# Altium schematic symbol library NUC973 DEV BOARD 20150401_Library.SchLib: 88 symbols
Pins are listed as number, name and electrical type; pins without a type are passive.

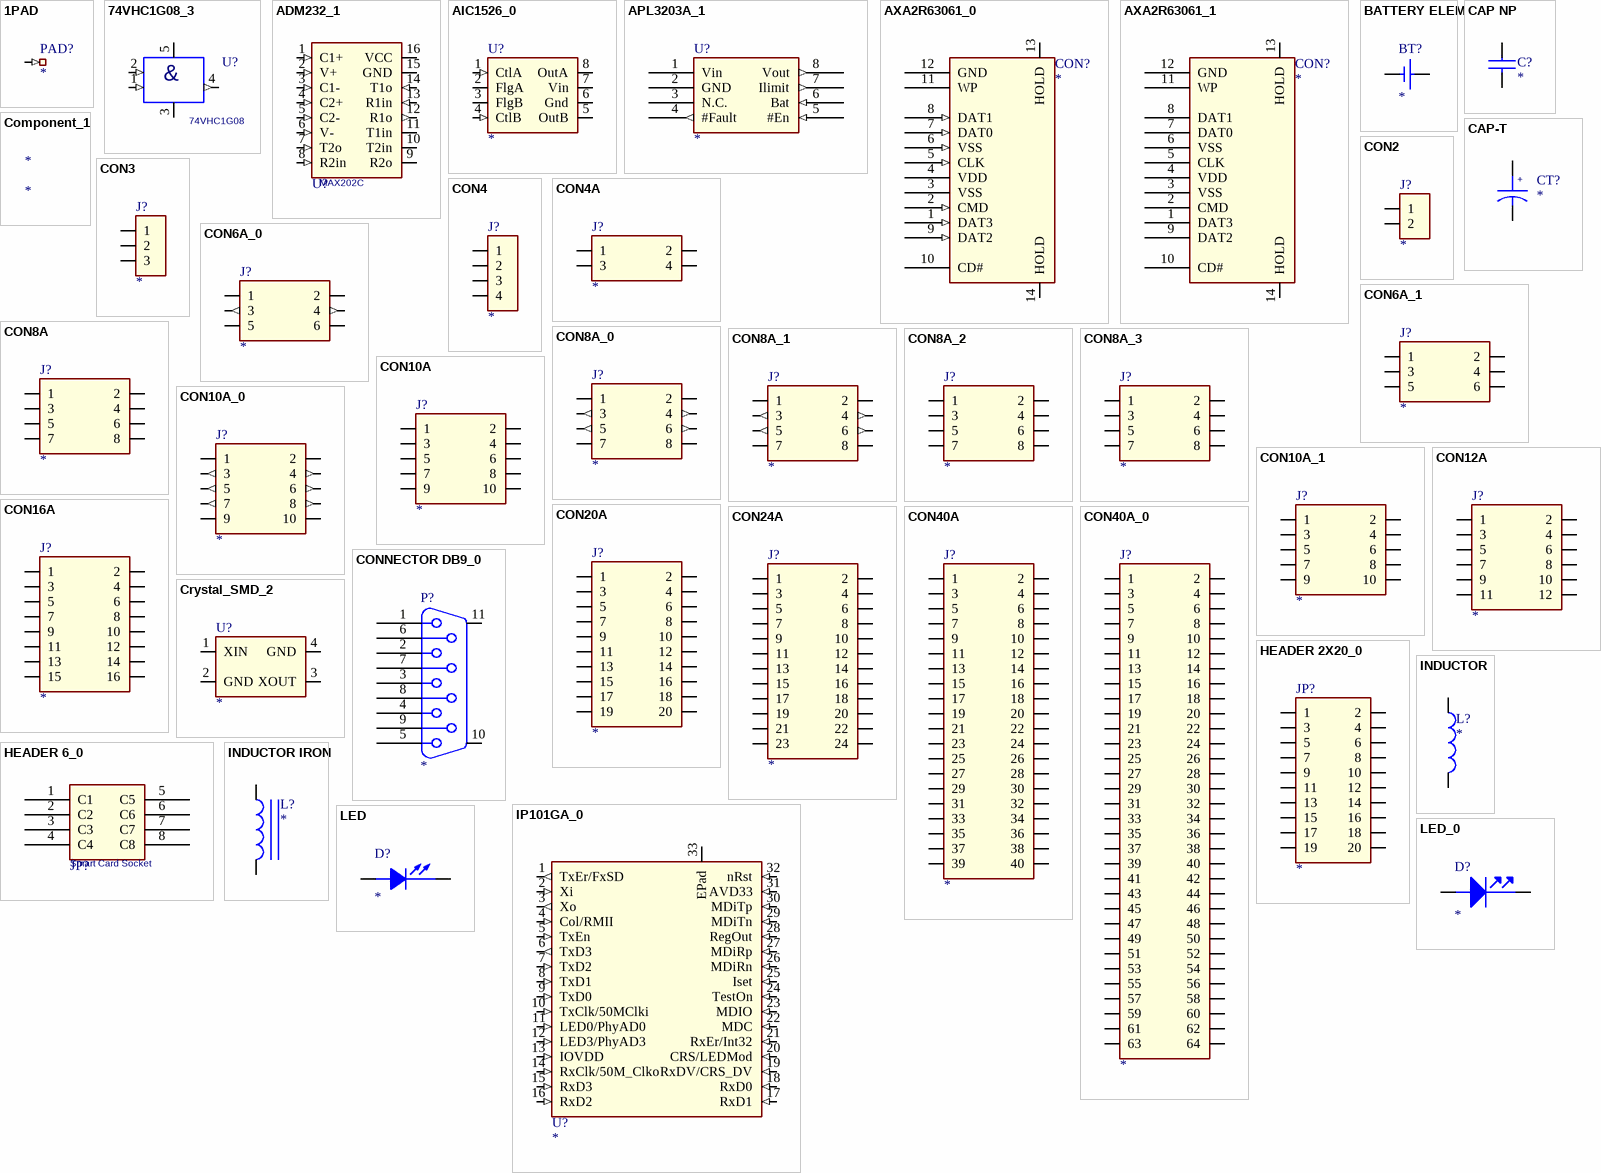
[diagram p0: symbols 1PAD to LED_0]

## 1PAD
designator PAD?
footprint 1PAD 1.25x1.25mm
pins: \ (in)

## 74VHC1G08_3
designator U?, comment 74VHC1G08
pins: 1 1B (in), 2 1A (in), 3 GND (power), 4 1Y (out), 5 VCC
text: &

## ADM232_1
designator U?, comment MAX202C
pins: 1 C1+ (in), 2 V+ (in), 3 C1- (in), 4 C2+ (in), 5 C2- (in), 6 V- (in), 7 T2o (in), 8 R2in (in), 9 R2o, 10 T2in, 11 T1in (io), 12 R1o (out), 13 R1in (in), 14 T1o (in), 15 GND (power), 16 VCC (power)

## AIC1526_0
designator U?
footprint SO-8
pins: 1 CtlA (in), 2 FlgA (oc), 3 FlgB (oc), 4 CtlB (in), 5 OutB (power), 6 Gnd (power), 7 Vin (power), 8 OutA (power)

## APL3203A_1
designator U?
footprint TDFN2x2-8
pins: 1 Vin (power), 2 GND (power), 3 N.C., 4 #Fault (out), 5 #En (in), 6 Bat (in), 7 Ilimit (out), 8 Vout (out)

## AXA2R63061_0
designator CON?
footprint AXA2R63061
pins: 1 DAT3 (in), 2 CMD (in), 3 VSS (power), 4 VDD (power), 5 CLK (in), 6 VSS (in), 7 DAT0 (in), 8 DAT1 (in), 9 DAT2 (in), 10 CD#, 11 WP, 12 GND (power), 13 HOLD (power), 14 HOLD (power)

## AXA2R63061_1
designator CON?
footprint AXA2R63061
pins: 1 DAT3, 2 CMD, 3 VSS (power), 4 VDD (power), 5 CLK, 6 VSS, 7 DAT0, 8 DAT1, 9 DAT2, 10 CD#, 11 WP, 12 GND (power), 13 HOLD (power), 14 HOLD (power)

## BATTERY ELEM
designator BT?
pins: 1, 2

## CAP NP
designator C?
pins: 1, 2

## CAP-T
designator CT?
pins: 1, 2
text: +

## Component_1
designator *

## CON2
designator J?
pins: 1, 2

## CON3
designator J?
pins: 1, 2, 3

## CON4
designator J?
pins: 1, 2, 3, 4

## CON4A
designator J?
pins: 1, 2, 3, 4

## CON6A_0
designator J?
pins: 1, 2, 3 (out), 4 (out), 5, 6

## CON6A_1
designator J?
pins: 1, 2, 3, 4, 5, 6

## CON8A
designator J?
pins: 1, 2, 3, 4, 5, 6, 7, 8

## CON8A_0
designator J?
pins: 1, 2, 3 (out), 4 (out), 5 (out), 6 (out), 7, 8

## CON8A_1
designator J?
pins: 1, 2, 3 (out), 4 (out), 5 (out), 6 (out), 7, 8

## CON8A_2
designator J?
pins: 1, 2, 3, 4, 5, 6, 7, 8

## CON8A_3
designator J?
pins: 1, 2, 3, 4, 5, 6, 7, 8

## CON10A
designator J?
pins: 1, 2, 3, 4, 5, 6, 7, 8, 9, 10

## CON10A_0
designator J?
pins: 1, 2, 3 (out), 4 (out), 5 (out), 6 (out), 7 (out), 8 (out), 9, 10

## CON10A_1
designator J?
pins: 1, 2, 3, 4, 5, 6, 7, 8, 9, 10

## CON12A
designator J?
pins: 1, 2, 3, 4, 5, 6, 7, 8, 9, 10, 11, 12

## CON16A
designator J?
pins: 1, 2, 3, 4, 5, 6, 7, 8, 9, 10, 11, 12, 13, 14, 15, 16

## CON20A
designator J?
pins: 1, 2, 3, 4, 5, 6, 7, 8, 9, 10, 11, 12, 13, 14, 15, 16, 17, 18, 19, 20

## CON24A
designator J?
pins: 1, 2, 3, 4, 5, 6, 7, 8, 9, 10, 11, 12, 13, 14, 15, 16, 17, 18, 19, 20, 21, 22, 23, 24

## CON40A
designator J?
pins: 1, 2, 3, 4, 5, 6, 7, 8, 9, 10, 11, 12, 13, 14, 15, 16, 17, 18, 19, 20, 21, 22, 23, 24, 25, 26, 27, 28, 29, 30, 31, 32, 33, 34, 35, 36, 37, 38, 39, 40

## CON40A_0
designator J?
pins: 1, 2, 3, 4, 5, 6, 7, 8, 9, 10, 11, 12, 13, 14, 15, 16, 17, 18, 19, 20, 21, 22, 23, 24, 25, 26, 27, 28, 29, 30, 31, 32, 33, 34, 35, 36, 37, 38, 39, 40, 41, 42, 43, 44, 45, 46, 47, 48, 49, 50, 51, 52, 53, 54, 55, 56, 57, 58, 59, 60, 61, 62, 63, 64

## CONNECTOR DB9_0
designator P?
pins: 1, 2, 3, 4, 5, 6, 7, 8, 9, 10 (power), 11 (power)

## Crystal_SMD_2
designator U?
pins: 1 XIN, 2 GND (power), 3 XOUT, 4 GND (power)

## HEADER 2X20_0
designator JP?
pins: 1, 2, 3, 4, 5, 6, 7, 8, 9, 10, 11, 12, 13, 14, 15, 16, 17, 18, 19, 20

## HEADER 6_0
designator JP?, comment Smart Card Socket
pins: 1 C1, 2 C2, 3 C3, 4 C4, 5 C5, 6 C6, 7 C7, 8 C8

## INDUCTOR
designator L?
pins: 1, 2

## INDUCTOR IRON
designator L?
pins: 1, 2

## IP101GA_0
designator U?
footprint QFN32
pins: 1 TxEr/FxSD (out), 2 Xi (in), 3 Xo (out), 4 Col/RMII (in), 5 TxEn (in), 6 TxD3 (out), 7 TxD2 (in), 8 TxD1 (in), 9 TxD0 (in), 10 TxClk/50MClki (in), 11 LED0/PhyAD0 (in), 12 LED3/PhyAD3 (in), 13 IOVDD (in), 14 RxClk/50M_Clko (in), 15 RxD3 (in), 16 RxD2 (in), 17 RxD1 (in), 18 RxD0 (in), 19 RxDV/CRS_DV (in), 20 CRS/LEDMod (in), 21 RxEr/Int32 (in), 22 MDC (in), 23 MDIO (in), 24 TestOn (in), 25 Iset (in), 26 MDiRn (in), 27 MDiRp (in), 28 RegOut (in), 29 MDiTn (in), 30 MDiTp (in), 31 AVD33 (in), 32 nRst (in), 33 EPad (power)

## LED
designator D?
pins: 1 ANODE, 2 CATHODE

## LED_0
designator D?
pins: ANODE, CATHODE

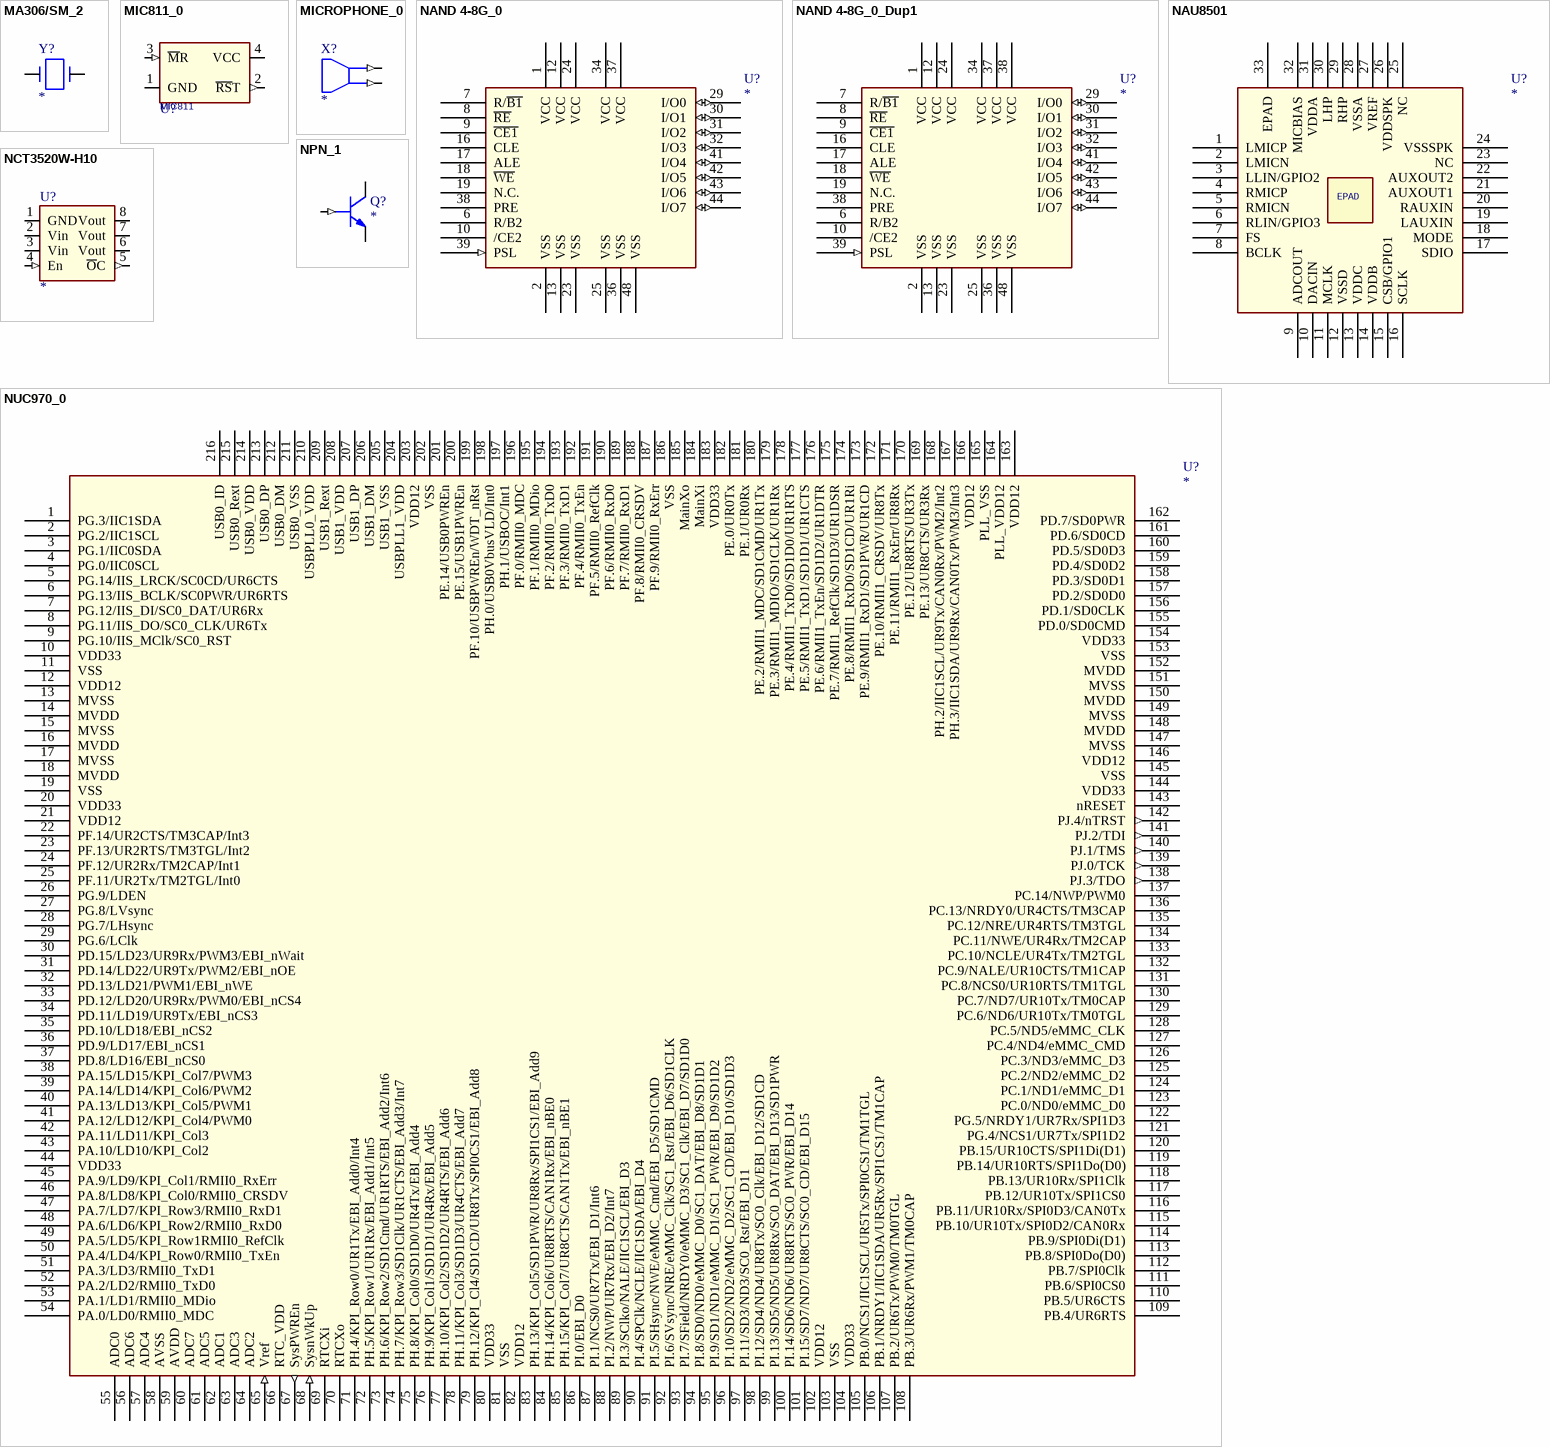
[diagram p1: symbols MA306/SM_2 to NUC970_0]

## MA306/SM_2
designator Y?
pins: 1, 2

## MIC811_0
designator U?, comment MIC811
pins: 1 GND, 2 ~{RS}T (out), 3 ~{M}R (in), 4 VCC

## MICROPHONE_0
designator X?
pins: 1 (out), 2 (out)

## NAND 4-8G_0
designator U?
footprint SOP48-0.5mm
pins: 1 VCC (power), 2 VSS (power), 6 R/B2, 7 R/~{B1}, 8 ~{RE}, 9 ~{CE1}, 10 /CE2, 12 VCC (power), 13 VSS (power), 16 CLE, 17 ALE, 18 ~{WE}, 19 N.C., 23 VSS (power), 24 VCC (power), 25 VSS (power), 29 I/O0 (io), 30 I/O1 (io), 31 I/O2 (io), 32 I/O3 (io), 34 VCC (power), 36 VSS (power), 37 VCC (power), 38 PRE, 39 PSL (in), 41 I/O4 (io), 42 I/O5 (io), 43 I/O6 (io), 44 I/O7 (io), 48 VSS (power)

## NAND 4-8G_0_Dup1
designator U?
footprint SOP48-0.5mm
pins: 1 VCC (power), 2 VSS (power), 6 R/B2, 7 R/~{B1}, 8 ~{RE}, 9 ~{CE1}, 10 /CE2, 12 VCC (power), 13 VSS (power), 16 CLE, 17 ALE, 18 ~{WE}, 19 N.C., 23 VSS (power), 24 VCC (power), 25 VSS (power), 29 I/O0 (io), 30 I/O1 (io), 31 I/O2 (io), 32 I/O3 (io), 34 VCC (power), 36 VSS (power), 37 VCC (power), 38 PRE, 38 VCC (power), 39 PSL (in), 41 I/O4 (io), 42 I/O5 (io), 43 I/O6 (io), 44 I/O7 (io), 48 VSS (power)

## NAU8501
designator U?
footprint QFN 32L, 5mm X 5mm, 0.5mm lead pitch
pins: 1 LMICP, 2 LMICN, 3 LLIN/GPIO2, 4 RMICP, 5 RMICN, 6 RLIN/GPIO3, 7 FS, 8 BCLK, 9 ADCOUT, 10 DACIN, 11 MCLK, 12 VSSD (power), 13 VDDC (power), 14 VDDB (power), 15 CSB/GPIO1, 16 SCLK, 17 SDIO, 18 MODE, 19 LAUXIN, 20 RAUXIN, 21 AUXOUT1, 22 AUXOUT2, 23 NC, 24 VSSSPK (power), 25 NC, 26 VDDSPK (power), 27 VREF, 28 VSSA (power), 29 RHP, 30 LHP, 31 VDDA (power), 32 MICBIAS (power), 33 EPAD

## NCT3520W-H10
designator U?
footprint MSOP-8
pins: 1 GND (power), 2 Vin (power), 3 Vin (power), 4 En (in), 5 ~{O}C (out), 6 Vout (power), 7 Vout (power), 8 Vout (power)

## NPN_1
designator Q?
pins: B (in), C, E

## NUC970_0
designator U?
footprint LQFP-216
pins: 1 PG.3/IIC1SDA, 2 PG.2/IIC1SCL, 3 PG.1/IIC0SDA, 4 PG.0/IIC0SCL, 5 PG.14/IIS_LRCK/SC0CD/UR6CTS, 6 PG.13/IIS_BCLK/SC0PWR/UR6RTS, 7 PG.12/IIS_DI/SC0_DAT/UR6Rx, 8 PG.11/IIS_DO/SC0_CLK/UR6Tx, 9 PG.10/IIS_MClk/SC0_RST, 10 VDD33 (power), 11 VSS (power), 12 VDD12 (power), 13 MVSS (power), 14 MVDD (power), 15 MVSS (power), 16 MVDD (power), 17 MVSS (power), 18 MVDD (power), 19 VSS (power), 20 VDD33 (power), 21 VDD12 (power), 22 PF.14/UR2CTS/TM3CAP/Int3, 23 PF.13/UR2RTS/TM3TGL/Int2, 24 PF.12/UR2Rx/TM2CAP/Int1, 25 PF.11/UR2Tx/TM2TGL/Int0, 26 PG.9/LDEN, 27 PG.8/LVsync, 28 PG.7/LHsync, 29 PG.6/LClk, 30 PD.15/LD23/UR9Rx/PWM3/EBI_nWait, 31 PD.14/LD22/UR9Tx/PWM2/EBI_nOE, 32 PD.13/LD21/PWM1/EBI_nWE, 33 PD.12/LD20/UR9Rx/PWM0/EBI_nCS4, 34 PD.11/LD19/UR9Tx/EBI_nCS3, 35 PD.10/LD18/EBI_nCS2, 36 PD.9/LD17/EBI_nCS1, 37 PD.8/LD16/EBI_nCS0, 38 PA.15/LD15/KPI_Col7/PWM3, 39 PA.14/LD14/KPI_Col6/PWM2, 40 PA.13/LD13/KPI_Col5/PWM1, 41 PA.12/LD12/KPI_Col4/PWM0, 42 PA.11/LD11/KPI_Col3, 43 PA.10/LD10/KPI_Col2, 44 VDD33 (power), 45 PA.9/LD9/KPI_Col1/RMII0_RxErr, 46 PA.8/LD8/KPI_Col0/RMII0_CRSDV, 47 PA.7/LD7/KPI_Row3/RMII0_RxD1, 48 PA.6/LD6/KPI_Row2/RMII0_RxD0, 49 PA.5/LD5/KPI_Row1RMII0_RefClk, 50 PA.4/LD4/KPI_Row0/RMII0_TxEn, 51 PA.3/LD3/RMII0_TxD1, 52 PA.2/LD2/RMII0_TxD0, 53 PA.1/LD1/RMII0_MDio, 54 PA.0/LD0/RMII0_MDC, 55 ADC0, 56 ADC6, 57 ADC4, 58 AVSS, 59 AVDD, 60 ADC7, 61 ADC5, 62 ADC1, 63 ADC3, 64 ADC2, 65 Vref (in), 66 RTC_VDD (power), 67 SysPWREn (out), 68 SysnWkUp (in), 69 RTCXi, 70 RTCXo, 71 PH.4/KPI_Row0/UR1Tx/EBI_Add0/Int4, 72 PH.5/KPI_Row1/UR1Rx/EBI_Add1/Int5, 73 PH.6/KPI_Row2/SD1Cmd/UR1RTS/EBI_Add2/Int6, 74 PH.7/KPI_Row3/SD1Clk/UR1CTS/EBI_Add3/Int7, 75 PH.8/KPI_Col0/SD1D0/UR4Tx/EBI_Add4, 76 PH.9/KPI_Col1/SD1D1/UR4Rx/EBI_Add5, 77 PH.10/KPI_Col2/SD1D2/UR4RTS/EBI_Add6, 78 PH.11/KPI_Col3/SD1D3/UR4CTS/EBI_Add7, 79 PH.12/KPI_Cl4/SD1CD/UR8Tx/SPI0CS1/EBI_Add8, 80 VDD33 (power), 81 VSS (power), 82 VDD12 (power), 83 PH.13/KPI_Col5/SD1PWR/UR8Rx/SPI1CS1/EBI_Add9, 84 PH.14/KPI_Col6/UR8RTS/CAN1Rx/EBI_nBE0, 85 PH.15/KPI_Col7/UR8CTS/CAN1Tx/EBI_nBE1, 86 PI.0/EBI_D0, 87 PI.1/NCS0/UR7Tx/EBI_D1/Int6, 88 PI.2/NWP/UR7Rx/EBI_D2/Int7, 89 PI.3/SClko/NALE/IIC1SCL/EBI_D3, 90 PI.4/SPClk/NCLE/IIC1SDA/EBI_D4, 91 PI.5/SHsync/NWE/eMMC_Cmd/EBI_D5/SD1CMD, 92 PI.6/SVsync/NRE/eMMC_Clk/SC1_Rst/EBI_D6/SD1CLK, 93 PI.7/SField/NRDY0/eMMC_D3/SC1_Clk/EBI_D7/SD1D0, 94 PI.8/SD0/ND0/eMMC_D0/SC1_DAT/EBI_D8/SD1D1, 95 PI.9/SD1/ND1/eMMC_D1/SC1_PWR/EBI_D9/SD1D2, 96 PI.10/SD2/ND2/eMMC_D2/SC1_CD/EBI_D10/SD1D3, 97 PI.11/SD3/ND3/SC0_Rst/EBI_D11, 98 PI.12/SD4/ND4/UR8Tx/SC0_Clk/EBI_D12/SD1CD, 99 PI.13/SD5/ND5/UR8Rx/SC0_DAT/EBI_D13/SD1PWR, 100 PI.14/SD6/ND6/UR8RTS/SC0_PWR/EBI_D14, 101 PI.15/SD7/ND7/UR8CTS/SC0_CD/EBI_D15, 102 VDD12 (power), 103 VSS (power), 104 VDD33 (power), 105 PB.0/NCS1/IIC1SCL/UR5Tx/SPI0CS1/TM1TGL, 106 PB.1/NRDY1/IIC1SDA/UR5Rx/SPI1CS1/TM1CAP, 107 PB.2/UR6Tx/PWM0/TM0TGL, 108 PB.3/UR6Rx/PWM1/TM0CAP, 109 PB.4/UR6RTS, 110 PB.5/UR6CTS, 111 PB.6/SPI0CS0, 112 PB.7/SPI0Clk, 113 PB.8/SPI0Do(D0), 114 PB.9/SPI0Di(D1), 115 PB.10/UR10Tx/SPI0D2/CAN0Rx, 116 PB.11/UR10Rx/SPI0D3/CAN0Tx, 117 PB.12/UR10Tx/SPI1CS0, 118 PB.13/UR10Rx/SPI1Clk, 119 PB.14/UR10RTS/SPI1Do(D0), 120 PB.15/UR10CTS/SPI1Di(D1), 121 PG.4/NCS1/UR7Tx/SPI1D2, 122 PG.5/NRDY1/UR7Rx/SPI1D3, 123 PC.0/ND0/eMMC_D0, 124 PC.1/ND1/eMMC_D1, 125 PC.2/ND2/eMMC_D2, 126 PC.3/ND3/eMMC_D3, 127 PC.4/ND4/eMMC_CMD, 128 PC.5/ND5/eMMC_CLK, 129 PC.6/ND6/UR10Tx/TM0TGL, 130 PC.7/ND7/UR10Tx/TM0CAP, 131 PC.8/NCS0/UR10RTS/TM1TGL, 132 PC.9/NALE/UR10CTS/TM1CAP, 133 PC.10/NCLE/UR4Tx/TM2TGL, 134 PC.11/NWE/UR4Rx/TM2CAP, 135 PC.12/NRE/UR4RTS/TM3TGL, 136 PC.13/NRDY0/UR4CTS/TM3CAP, 137 PC.14/NWP/PWM0, 138 PJ.3/TDO (out), 139 PJ.0/TCK (out), 140 PJ.1/TMS (out), 141 PJ.2/TDI (out), 142 PJ.4/nTRST (out), 143 nRESET, 144 VDD33 (power), 145 VSS (power), 146 VDD12 (power), 147 MVSS (power), 148 MVDD (power), 149 MVSS (power), 150 MVDD (power), 151 MVSS (power), 152 MVDD (power), 153 VSS (power), 154 VDD33 (power), 155 PD.0/SD0CMD, 156 PD.1/SD0CLK, 157 PD.2/SD0D0, 158 PD.3/SD0D1, 159 PD.4/SD0D2, 160 PD.5/SD0D3, 161 PD.6/SD0CD, 162 PD.7/SD0PWR, 163 VDD12 (power), 164 PLL_VDD12 (power), 165 PLL_VSS (power), 166 VDD12 (power), 167 PH.3/IIC1SDA/UR9Rx/CAN0Tx/PWM3/Int3, 168 PH.2/IIC1SCL/UR9Tx/CAN0Rx/PWM2/Int2, 169 PE.13/UR8CTS/UR3Rx, 170 PE.12/UR8RTS/UR3Tx, 171 PE.11/RMII1_RxErr/UR8Rx, 172 PE.10/RMII1_CRSDV/UR8Tx, 173 PE.9/RMII1_RxD1/SD1PWR/UR1CD, 174 PE.8/RMII1_RxD0/SD1CD/UR1Ri, 175 PE.7/RMII1_RefClk/SD1D3/UR1DSR, 176 PE.6/RMII1_TxEn/SD1D2/UR1DTR, 177 PE.5/RMII1_TxD1/SD1D1/UR1CTS, 178 PE.4/RMII1_TxD0/SD1D0/UR1RTS, 179 PE.3/RMII1_MDIO/SD1CLK/UR1Rx, 180 PE.2/RMII1_MDC/SD1CMD/UR1Tx, 181 PE.1/UR0Rx, 182 PE.0/UR0Tx, 183 VDD33 (power), 184 MainXi, 185 MainXo, 186 VSS (power), 187 PF.9/RMII0_RxErr, 188 PF.8/RMII0_CRSDV, 189 PF.7/RMII0_RxD1, 190 PF.6/RMII0_RxD0, 191 PF.5/RMII0_RefClk, 192 PF.4/RMII0_TxEn, 193 PF.3/RMII0_TxD1, 194 PF.2/RMII0_TxD0, 195 PF.1/RMII0_MDio, 196 PF.0/RMII0_MDC, 197 PH.1/USBOC/Int1, 198 PH.0/USB0VbusVLD/Int0, 199 PF.10/USBPWREn/WDT_nRst, 200 PE.15/USB1PWREn, 201 PE.14/USB0PWREn, 202 VSS (power), 203 VDD12 (power), 204 USBPLL1_VDD (power), 205 USB1_VSS (power), 206 USB1_DM, 207 USB1_DP, 208 USB1_VDD (power), 209 USB1_Rext, 210 USBPLL0_VDD (power), 211 USB0_VSS, 212 USB0_DM, 213 USB0_DP, 214 USB0_VDD (power), 215 USB0_Rext, 216 USB0_ID

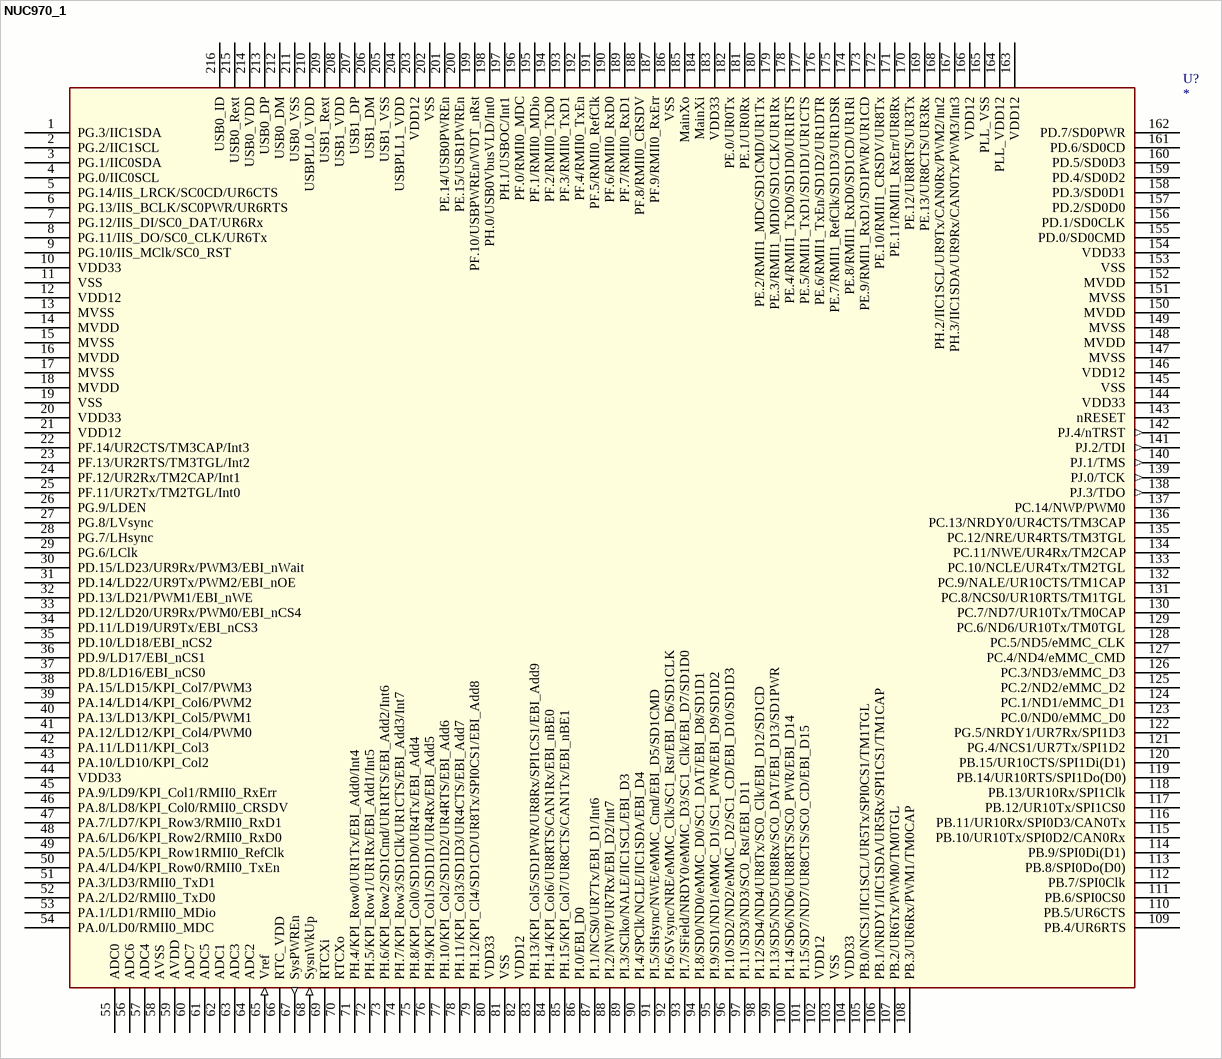
[diagram p2: symbol NUC970_1]

## NUC970_1
designator U?
footprint LQFP-216
pins: 1 PG.3/IIC1SDA, 2 PG.2/IIC1SCL, 3 PG.1/IIC0SDA, 4 PG.0/IIC0SCL, 5 PG.14/IIS_LRCK/SC0CD/UR6CTS, 6 PG.13/IIS_BCLK/SC0PWR/UR6RTS, 7 PG.12/IIS_DI/SC0_DAT/UR6Rx, 8 PG.11/IIS_DO/SC0_CLK/UR6Tx, 9 PG.10/IIS_MClk/SC0_RST, 10 VDD33 (power), 11 VSS (power), 12 VDD12 (power), 13 MVSS (power), 14 MVDD (power), 15 MVSS (power), 16 MVDD (power), 17 MVSS (power), 18 MVDD (power), 19 VSS (power), 20 VDD33 (power), 21 VDD12 (power), 22 PF.14/UR2CTS/TM3CAP/Int3, 23 PF.13/UR2RTS/TM3TGL/Int2, 24 PF.12/UR2Rx/TM2CAP/Int1, 25 PF.11/UR2Tx/TM2TGL/Int0, 26 PG.9/LDEN, 27 PG.8/LVsync, 28 PG.7/LHsync, 29 PG.6/LClk, 30 PD.15/LD23/UR9Rx/PWM3/EBI_nWait, 31 PD.14/LD22/UR9Tx/PWM2/EBI_nOE, 32 PD.13/LD21/PWM1/EBI_nWE, 33 PD.12/LD20/UR9Rx/PWM0/EBI_nCS4, 34 PD.11/LD19/UR9Tx/EBI_nCS3, 35 PD.10/LD18/EBI_nCS2, 36 PD.9/LD17/EBI_nCS1, 37 PD.8/LD16/EBI_nCS0, 38 PA.15/LD15/KPI_Col7/PWM3, 39 PA.14/LD14/KPI_Col6/PWM2, 40 PA.13/LD13/KPI_Col5/PWM1, 41 PA.12/LD12/KPI_Col4/PWM0, 42 PA.11/LD11/KPI_Col3, 43 PA.10/LD10/KPI_Col2, 44 VDD33 (power), 45 PA.9/LD9/KPI_Col1/RMII0_RxErr, 46 PA.8/LD8/KPI_Col0/RMII0_CRSDV, 47 PA.7/LD7/KPI_Row3/RMII0_RxD1, 48 PA.6/LD6/KPI_Row2/RMII0_RxD0, 49 PA.5/LD5/KPI_Row1RMII0_RefClk, 50 PA.4/LD4/KPI_Row0/RMII0_TxEn, 51 PA.3/LD3/RMII0_TxD1, 52 PA.2/LD2/RMII0_TxD0, 53 PA.1/LD1/RMII0_MDio, 54 PA.0/LD0/RMII0_MDC, 55 ADC0, 56 ADC6, 57 ADC4, 58 AVSS, 59 AVDD, 60 ADC7, 61 ADC5, 62 ADC1, 63 ADC3, 64 ADC2, 65 Vref (in), 66 RTC_VDD (power), 67 SysPWREn (out), 68 SysnWkUp (in), 69 RTCXi, 70 RTCXo, 71 PH.4/KPI_Row0/UR1Tx/EBI_Add0/Int4, 72 PH.5/KPI_Row1/UR1Rx/EBI_Add1/Int5, 73 PH.6/KPI_Row2/SD1Cmd/UR1RTS/EBI_Add2/Int6, 74 PH.7/KPI_Row3/SD1Clk/UR1CTS/EBI_Add3/Int7, 75 PH.8/KPI_Col0/SD1D0/UR4Tx/EBI_Add4, 76 PH.9/KPI_Col1/SD1D1/UR4Rx/EBI_Add5, 77 PH.10/KPI_Col2/SD1D2/UR4RTS/EBI_Add6, 78 PH.11/KPI_Col3/SD1D3/UR4CTS/EBI_Add7, 79 PH.12/KPI_Cl4/SD1CD/UR8Tx/SPI0CS1/EBI_Add8, 80 VDD33 (power), 81 VSS (power), 82 VDD12 (power), 83 PH.13/KPI_Col5/SD1PWR/UR8Rx/SPI1CS1/EBI_Add9, 84 PH.14/KPI_Col6/UR8RTS/CAN1Rx/EBI_nBE0, 85 PH.15/KPI_Col7/UR8CTS/CAN1Tx/EBI_nBE1, 86 PI.0/EBI_D0, 87 PI.1/NCS0/UR7Tx/EBI_D1/Int6, 88 PI.2/NWP/UR7Rx/EBI_D2/Int7, 89 PI.3/SClko/NALE/IIC1SCL/EBI_D3, 90 PI.4/SPClk/NCLE/IIC1SDA/EBI_D4, 91 PI.5/SHsync/NWE/eMMC_Cmd/EBI_D5/SD1CMD, 92 PI.6/SVsync/NRE/eMMC_Clk/SC1_Rst/EBI_D6/SD1CLK, 93 PI.7/SField/NRDY0/eMMC_D3/SC1_Clk/EBI_D7/SD1D0, 94 PI.8/SD0/ND0/eMMC_D0/SC1_DAT/EBI_D8/SD1D1, 95 PI.9/SD1/ND1/eMMC_D1/SC1_PWR/EBI_D9/SD1D2, 96 PI.10/SD2/ND2/eMMC_D2/SC1_CD/EBI_D10/SD1D3, 97 PI.11/SD3/ND3/SC0_Rst/EBI_D11, 98 PI.12/SD4/ND4/UR8Tx/SC0_Clk/EBI_D12/SD1CD, 99 PI.13/SD5/ND5/UR8Rx/SC0_DAT/EBI_D13/SD1PWR, 100 PI.14/SD6/ND6/UR8RTS/SC0_PWR/EBI_D14, 101 PI.15/SD7/ND7/UR8CTS/SC0_CD/EBI_D15, 102 VDD12 (power), 103 VSS (power), 104 VDD33 (power), 105 PB.0/NCS1/IIC1SCL/UR5Tx/SPI0CS1/TM1TGL, 106 PB.1/NRDY1/IIC1SDA/UR5Rx/SPI1CS1/TM1CAP, 107 PB.2/UR6Tx/PWM0/TM0TGL, 108 PB.3/UR6Rx/PWM1/TM0CAP, 109 PB.4/UR6RTS, 110 PB.5/UR6CTS, 111 PB.6/SPI0CS0, 112 PB.7/SPI0Clk, 113 PB.8/SPI0Do(D0), 114 PB.9/SPI0Di(D1), 115 PB.10/UR10Tx/SPI0D2/CAN0Rx, 116 PB.11/UR10Rx/SPI0D3/CAN0Tx, 117 PB.12/UR10Tx/SPI1CS0, 118 PB.13/UR10Rx/SPI1Clk, 119 PB.14/UR10RTS/SPI1Do(D0), 120 PB.15/UR10CTS/SPI1Di(D1), 121 PG.4/NCS1/UR7Tx/SPI1D2, 122 PG.5/NRDY1/UR7Rx/SPI1D3, 123 PC.0/ND0/eMMC_D0, 124 PC.1/ND1/eMMC_D1, 125 PC.2/ND2/eMMC_D2, 126 PC.3/ND3/eMMC_D3, 127 PC.4/ND4/eMMC_CMD, 128 PC.5/ND5/eMMC_CLK, 129 PC.6/ND6/UR10Tx/TM0TGL, 130 PC.7/ND7/UR10Tx/TM0CAP, 131 PC.8/NCS0/UR10RTS/TM1TGL, 132 PC.9/NALE/UR10CTS/TM1CAP, 133 PC.10/NCLE/UR4Tx/TM2TGL, 134 PC.11/NWE/UR4Rx/TM2CAP, 135 PC.12/NRE/UR4RTS/TM3TGL, 136 PC.13/NRDY0/UR4CTS/TM3CAP, 137 PC.14/NWP/PWM0, 138 PJ.3/TDO (out), 139 PJ.0/TCK (out), 140 PJ.1/TMS (out), 141 PJ.2/TDI (out), 142 PJ.4/nTRST (out), 143 nRESET, 144 VDD33 (power), 145 VSS (power), 146 VDD12 (power), 147 MVSS (power), 148 MVDD (power), 149 MVSS (power), 150 MVDD (power), 151 MVSS (power), 152 MVDD (power), 153 VSS (power), 154 VDD33 (power), 155 PD.0/SD0CMD, 156 PD.1/SD0CLK, 157 PD.2/SD0D0, 158 PD.3/SD0D1, 159 PD.4/SD0D2, 160 PD.5/SD0D3, 161 PD.6/SD0CD, 162 PD.7/SD0PWR, 163 VDD12 (power), 164 PLL_VDD12 (power), 165 PLL_VSS (power), 166 VDD12 (power), 167 PH.3/IIC1SDA/UR9Rx/CAN0Tx/PWM3/Int3, 168 PH.2/IIC1SCL/UR9Tx/CAN0Rx/PWM2/Int2, 169 PE.13/UR8CTS/UR3Rx, 170 PE.12/UR8RTS/UR3Tx, 171 PE.11/RMII1_RxErr/UR8Rx, 172 PE.10/RMII1_CRSDV/UR8Tx, 173 PE.9/RMII1_RxD1/SD1PWR/UR1CD, 174 PE.8/RMII1_RxD0/SD1CD/UR1Ri, 175 PE.7/RMII1_RefClk/SD1D3/UR1DSR, 176 PE.6/RMII1_TxEn/SD1D2/UR1DTR, 177 PE.5/RMII1_TxD1/SD1D1/UR1CTS, 178 PE.4/RMII1_TxD0/SD1D0/UR1RTS, 179 PE.3/RMII1_MDIO/SD1CLK/UR1Rx, 180 PE.2/RMII1_MDC/SD1CMD/UR1Tx, 181 PE.1/UR0Rx, 182 PE.0/UR0Tx, 183 VDD33 (power), 184 MainXi, 185 MainXo, 186 VSS (power), 187 PF.9/RMII0_RxErr, 188 PF.8/RMII0_CRSDV, 189 PF.7/RMII0_RxD1, 190 PF.6/RMII0_RxD0, 191 PF.5/RMII0_RefClk, 192 PF.4/RMII0_TxEn, 193 PF.3/RMII0_TxD1, 194 PF.2/RMII0_TxD0, 195 PF.1/RMII0_MDio, 196 PF.0/RMII0_MDC, 197 PH.1/USBOC/Int1, 198 PH.0/USB0VbusVLD/Int0, 199 PF.10/USBPWREn/WDT_nRst, 200 PE.15/USB1PWREn, 201 PE.14/USB0PWREn, 202 VSS (power), 203 VDD12 (power), 204 USBPLL1_VDD (power), 205 USB1_VSS (power), 206 USB1_DM, 207 USB1_DP, 208 USB1_VDD (power), 209 USB1_Rext, 210 USBPLL0_VDD (power), 211 USB0_VSS, 212 USB0_DM, 213 USB0_DP, 214 USB0_VDD (power), 215 USB0_Rext, 216 USB0_ID

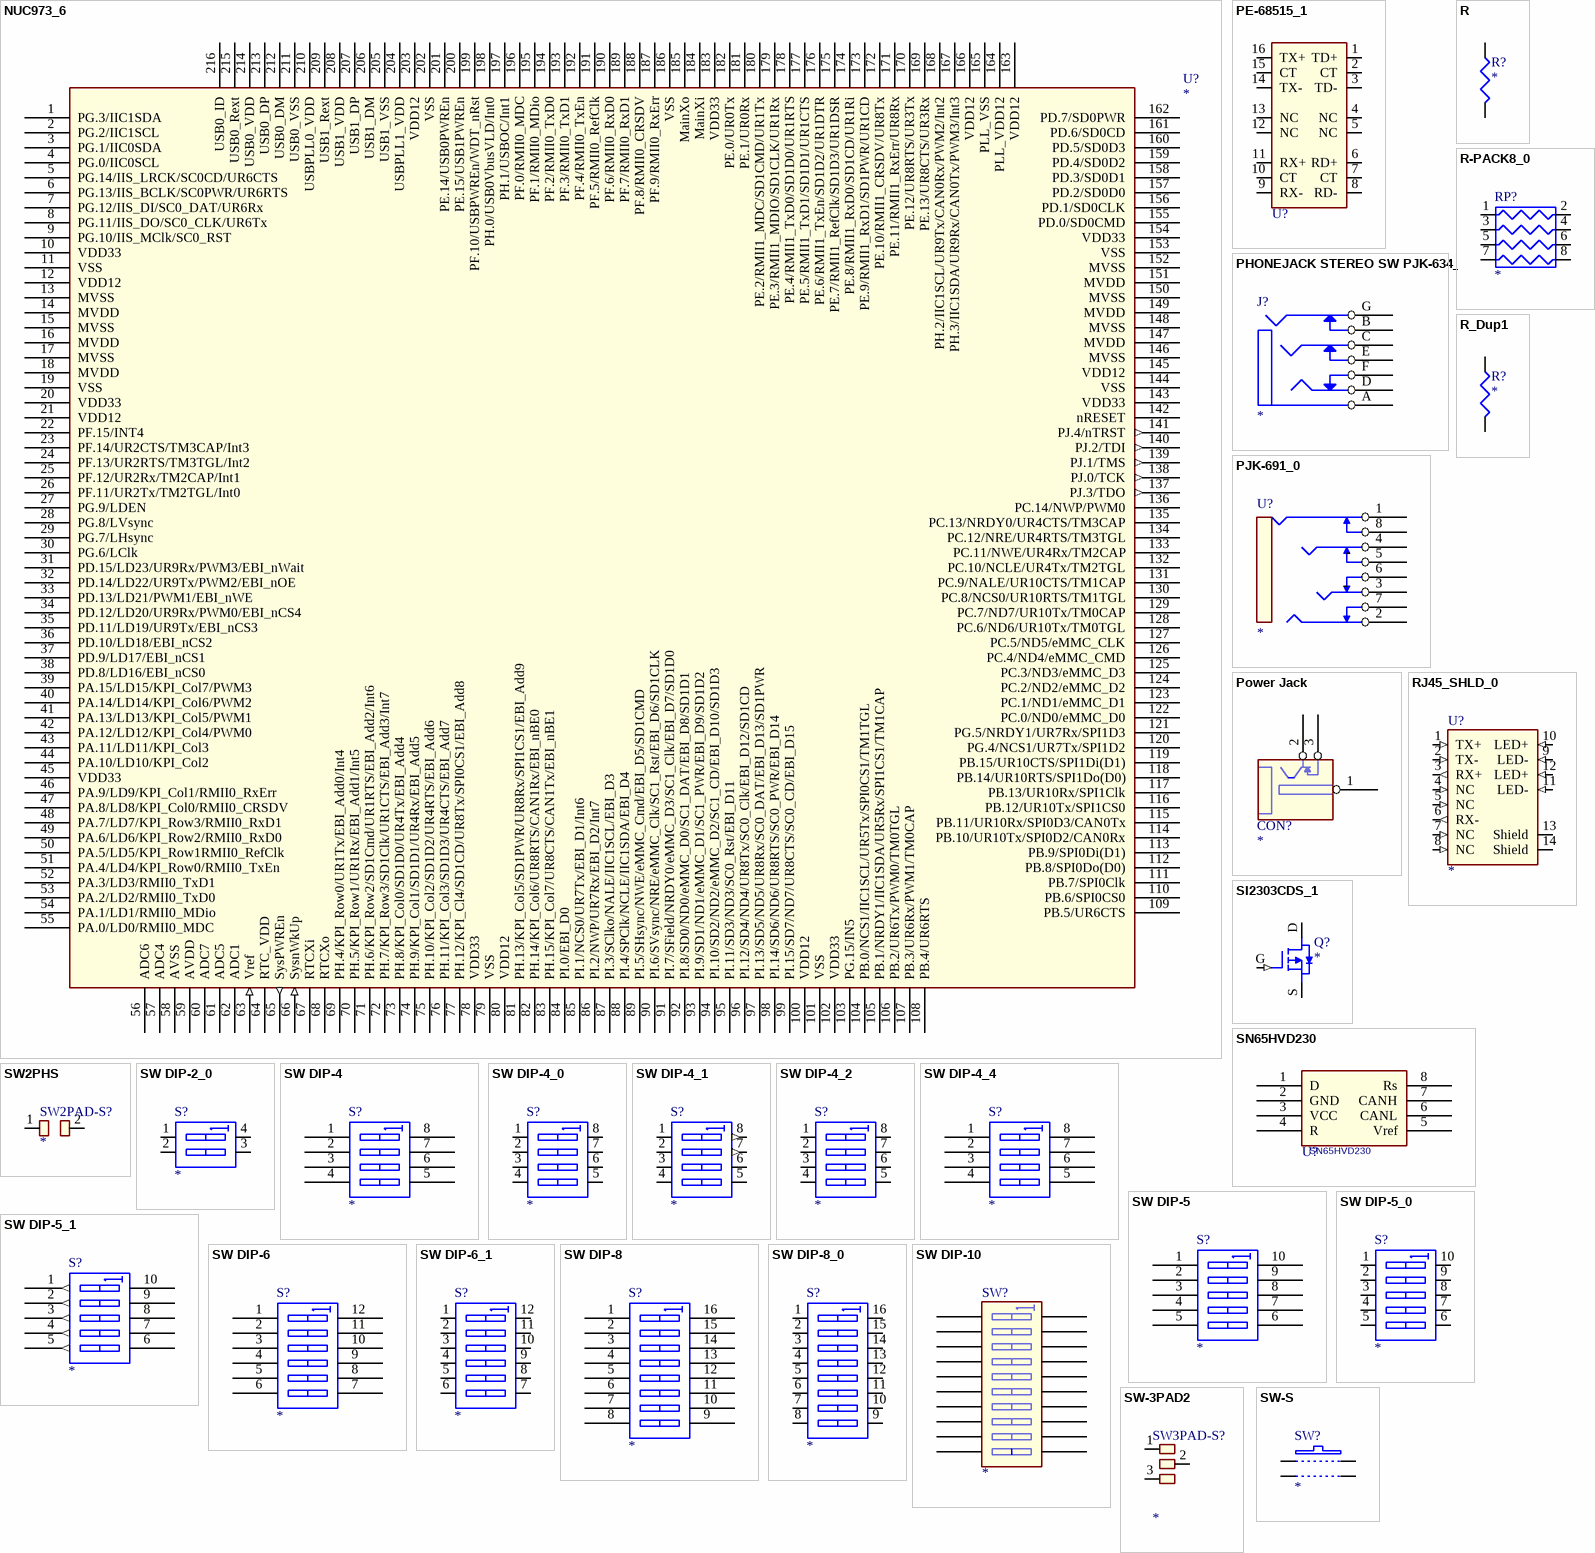
[diagram p3: symbols NUC973_6 to SW-S]

## NUC973_6
designator U?
footprint LQFP-216
pins: 1 PG.3/IIC1SDA, 2 PG.2/IIC1SCL, 3 PG.1/IIC0SDA, 4 PG.0/IIC0SCL, 5 PG.14/IIS_LRCK/SC0CD/UR6CTS, 6 PG.13/IIS_BCLK/SC0PWR/UR6RTS, 7 PG.12/IIS_DI/SC0_DAT/UR6Rx, 8 PG.11/IIS_DO/SC0_CLK/UR6Tx, 9 PG.10/IIS_MClk/SC0_RST, 10 VDD33 (power), 11 VSS (power), 12 VDD12 (power), 13 MVSS (power), 14 MVDD (power), 15 MVSS (power), 16 MVDD (power), 17 MVSS (power), 18 MVDD (power), 19 VSS (power), 20 VDD33 (power), 21 VDD12 (power), 22 PF.15/INT4, 23 PF.14/UR2CTS/TM3CAP/Int3, 24 PF.13/UR2RTS/TM3TGL/Int2, 25 PF.12/UR2Rx/TM2CAP/Int1, 26 PF.11/UR2Tx/TM2TGL/Int0, 27 PG.9/LDEN, 28 PG.8/LVsync, 29 PG.7/LHsync, 30 PG.6/LClk, 31 PD.15/LD23/UR9Rx/PWM3/EBI_nWait, 32 PD.14/LD22/UR9Tx/PWM2/EBI_nOE, 33 PD.13/LD21/PWM1/EBI_nWE, 34 PD.12/LD20/UR9Rx/PWM0/EBI_nCS4, 35 PD.11/LD19/UR9Tx/EBI_nCS3, 36 PD.10/LD18/EBI_nCS2, 37 PD.9/LD17/EBI_nCS1, 38 PD.8/LD16/EBI_nCS0, 39 PA.15/LD15/KPI_Col7/PWM3, 40 PA.14/LD14/KPI_Col6/PWM2, 41 PA.13/LD13/KPI_Col5/PWM1, 42 PA.12/LD12/KPI_Col4/PWM0, 43 PA.11/LD11/KPI_Col3, 44 PA.10/LD10/KPI_Col2, 45 VDD33 (power), 46 PA.9/LD9/KPI_Col1/RMII0_RxErr, 47 PA.8/LD8/KPI_Col0/RMII0_CRSDV, 48 PA.7/LD7/KPI_Row3/RMII0_RxD1, 49 PA.6/LD6/KPI_Row2/RMII0_RxD0, 50 PA.5/LD5/KPI_Row1RMII0_RefClk, 51 PA.4/LD4/KPI_Row0/RMII0_TxEn, 52 PA.3/LD3/RMII0_TxD1, 53 PA.2/LD2/RMII0_TxD0, 54 PA.1/LD1/RMII0_MDio, 55 PA.0/LD0/RMII0_MDC, 56 ADC6, 57 ADC4, 58 AVSS, 59 AVDD, 60 ADC7, 61 ADC5, 62 ADC1, 63 Vref (in), 64 RTC_VDD (power), 65 SysPWREn (out), 66 SysnWkUp (in), 67 RTCXi, 68 RTCXo, 69 PH.4/KPI_Row0/UR1Tx/EBI_Add0/Int4, 70 PH.5/KPI_Row1/UR1Rx/EBI_Add1/Int5, 71 PH.6/KPI_Row2/SD1Cmd/UR1RTS/EBI_Add2/Int6, 72 PH.7/KPI_Row3/SD1Clk/UR1CTS/EBI_Add3/Int7, 73 PH.8/KPI_Col0/SD1D0/UR4Tx/EBI_Add4, 74 PH.9/KPI_Col1/SD1D1/UR4Rx/EBI_Add5, 75 PH.10/KPI_Col2/SD1D2/UR4RTS/EBI_Add6, 76 PH.11/KPI_Col3/SD1D3/UR4CTS/EBI_Add7, 77 PH.12/KPI_Cl4/SD1CD/UR8Tx/SPI0CS1/EBI_Add8, 78 VDD33 (power), 79 VSS (power), 80 VDD12 (power), 81 PH.13/KPI_Col5/SD1PWR/UR8Rx/SPI1CS1/EBI_Add9, 82 PH.14/KPI_Col6/UR8RTS/CAN1Rx/EBI_nBE0, 83 PH.15/KPI_Col7/UR8CTS/CAN1Tx/EBI_nBE1, 84 PI.0/EBI_D0, 85 PI.1/NCS0/UR7Tx/EBI_D1/Int6, 86 PI.2/NWP/UR7Rx/EBI_D2/Int7, 87 PI.3/SClko/NALE/IIC1SCL/EBI_D3, 88 PI.4/SPClk/NCLE/IIC1SDA/EBI_D4, 89 PI.5/SHsync/NWE/eMMC_Cmd/EBI_D5/SD1CMD, 90 PI.6/SVsync/NRE/eMMC_Clk/SC1_Rst/EBI_D6/SD1CLK, 91 PI.7/SField/NRDY0/eMMC_D3/SC1_Clk/EBI_D7/SD1D0, 92 PI.8/SD0/ND0/eMMC_D0/SC1_DAT/EBI_D8/SD1D1, 93 PI.9/SD1/ND1/eMMC_D1/SC1_PWR/EBI_D9/SD1D2, 94 PI.10/SD2/ND2/eMMC_D2/SC1_CD/EBI_D10/SD1D3, 95 PI.11/SD3/ND3/SC0_Rst/EBI_D11, 96 PI.12/SD4/ND4/UR8Tx/SC0_Clk/EBI_D12/SD1CD, 97 PI.13/SD5/ND5/UR8Rx/SC0_DAT/EBI_D13/SD1PWR, 98 PI.14/SD6/ND6/UR8RTS/SC0_PWR/EBI_D14, 99 PI.15/SD7/ND7/UR8CTS/SC0_CD/EBI_D15, 100 VDD12 (power), 101 VSS (power), 102 VDD33 (power), 103 PG.15/IN5, 104 PB.0/NCS1/IIC1SCL/UR5Tx/SPI0CS1/TM1TGL, 105 PB.1/NRDY1/IIC1SDA/UR5Rx/SPI1CS1/TM1CAP, 106 PB.2/UR6Tx/PWM0/TM0TGL, 107 PB.3/UR6Rx/PWM1/TM0CAP, 108 PB.4/UR6RTS, 109 PB.5/UR6CTS, 110 PB.6/SPI0CS0, 111 PB.7/SPI0Clk, 112 PB.8/SPI0Do(D0), 113 PB.9/SPI0Di(D1), 114 PB.10/UR10Tx/SPI0D2/CAN0Rx, 115 PB.11/UR10Rx/SPI0D3/CAN0Tx, 116 PB.12/UR10Tx/SPI1CS0, 117 PB.13/UR10Rx/SPI1Clk, 118 PB.14/UR10RTS/SPI1Do(D0), 119 PB.15/UR10CTS/SPI1Di(D1), 120 PG.4/NCS1/UR7Tx/SPI1D2, 121 PG.5/NRDY1/UR7Rx/SPI1D3, 122 PC.0/ND0/eMMC_D0, 123 PC.1/ND1/eMMC_D1, 124 PC.2/ND2/eMMC_D2, 125 PC.3/ND3/eMMC_D3, 126 PC.4/ND4/eMMC_CMD, 127 PC.5/ND5/eMMC_CLK, 128 PC.6/ND6/UR10Tx/TM0TGL, 129 PC.7/ND7/UR10Tx/TM0CAP, 130 PC.8/NCS0/UR10RTS/TM1TGL, 131 PC.9/NALE/UR10CTS/TM1CAP, 132 PC.10/NCLE/UR4Tx/TM2TGL, 133 PC.11/NWE/UR4Rx/TM2CAP, 134 PC.12/NRE/UR4RTS/TM3TGL, 135 PC.13/NRDY0/UR4CTS/TM3CAP, 136 PC.14/NWP/PWM0, 137 PJ.3/TDO (out), 138 PJ.0/TCK (out), 139 PJ.1/TMS (out), 140 PJ.2/TDI (out), 141 PJ.4/nTRST (out), 142 nRESET, 143 VDD33 (power), 144 VSS (power), 145 VDD12 (power), 146 MVSS (power), 147 MVDD (power), 148 MVSS (power), 149 MVDD (power), 150 MVSS (power), 151 MVDD (power), 152 MVSS (power), 153 VSS (power), 154 VDD33 (power), 155 PD.0/SD0CMD, 156 PD.1/SD0CLK, 157 PD.2/SD0D0, 158 PD.3/SD0D1, 159 PD.4/SD0D2, 160 PD.5/SD0D3, 161 PD.6/SD0CD, 162 PD.7/SD0PWR, 163 VDD12 (power), 164 PLL_VDD12 (power), 165 PLL_VSS (power), 166 VDD12 (power), 167 PH.3/IIC1SDA/UR9Rx/CAN0Tx/PWM3/Int3, 168 PH.2/IIC1SCL/UR9Tx/CAN0Rx/PWM2/Int2, 169 PE.13/UR8CTS/UR3Rx, 170 PE.12/UR8RTS/UR3Tx, 171 PE.11/RMII1_RxErr/UR8Rx, 172 PE.10/RMII1_CRSDV/UR8Tx, 173 PE.9/RMII1_RxD1/SD1PWR/UR1CD, 174 PE.8/RMII1_RxD0/SD1CD/UR1Ri, 175 PE.7/RMII1_RefClk/SD1D3/UR1DSR, 176 PE.6/RMII1_TxEn/SD1D2/UR1DTR, 177 PE.5/RMII1_TxD1/SD1D1/UR1CTS, 178 PE.4/RMII1_TxD0/SD1D0/UR1RTS, 179 PE.3/RMII1_MDIO/SD1CLK/UR1Rx, 180 PE.2/RMII1_MDC/SD1CMD/UR1Tx, 181 PE.1/UR0Rx, 182 PE.0/UR0Tx, 183 VDD33 (power), 184 MainXi, 185 MainXo, 186 VSS (power), 187 PF.9/RMII0_RxErr, 188 PF.8/RMII0_CRSDV, 189 PF.7/RMII0_RxD1, 190 PF.6/RMII0_RxD0, 191 PF.5/RMII0_RefClk, 192 PF.4/RMII0_TxEn, 193 PF.3/RMII0_TxD1, 194 PF.2/RMII0_TxD0, 195 PF.1/RMII0_MDio, 196 PF.0/RMII0_MDC, 197 PH.1/USBOC/Int1, 198 PH.0/USB0VbusVLD/Int0, 199 PF.10/USBPWREn/WDT_nRst, 200 PE.15/USB1PWREn, 201 PE.14/USB0PWREn, 202 VSS (power), 203 VDD12 (power), 204 USBPLL1_VDD (power), 205 USB1_VSS (power), 206 USB1_DM, 207 USB1_DP, 208 USB1_VDD (power), 209 USB1_Rext, 210 USBPLL0_VDD (power), 211 USB0_VSS, 212 USB0_DM, 213 USB0_DP, 214 USB0_VDD (power), 215 USB0_Rext, 216 USB0_ID

## PE-68515_1
designator U?, comment PE-68515L  (value not drawn)
pins: 1 TD+, 2 CT, 3 TD-, 4 NC, 5 NC, 6 RD+, 7 CT, 8 RD-, 9 RX-, 10 CT, 11 RX+, 12 NC, 13 NC, 14 TX-, 15 CT, 16 TX+

## PHONEJACK STEREO SW PJK-634_4
designator J?
pins: A, B, C, D, E, F, G

## PJK-691_0
designator U?
pins: 1, 2, 3, 4, 5, 6, 7, 8

## Power Jack
designator CON?
footprint 3
pins: 1, 2, 3

## R
designator R?
pins: 1, 2

## R-PACK8_0
designator RP?
pins: 1 R1, 2 R1, 3 R2, 4 R2, 5 R3, 6 R3, 7 R4, 8 R4

## R_Dup1
designator R?
pins: 1, 2

## RJ45_SHLD_0
designator U?
pins: 1 TX+ (in), 2 TX- (in), 3 RX+ (out), 4 NC (in), 5 NC (in), 6 RX- (out), 7 NC (in), 8 NC (in), 9 LED- (in), 10 LED+ (in), 11 LED- (in), 12 LED+ (in), 13 Shield, 14 Shield

## SI2303CDS_1
designator Q?
footprint SOT-23
pins: D DRAIN, G GATE (in), S SOURCE

## SN65HVD230
designator U?
footprint SOIC-8
pins: 1 D, 2 GND, 3 VCC, 4 R, 5 Vref, 6 CANL, 7 CANH, 8 Rs

## SW2PHS
designator SW2PAD-S?
footprint 2P-1.2mm
pins: 1 ~{}, 2 ~{}

## SW DIP-2_0
designator S?
pins: 1 A1, 2 A2, 3 B2, 4 B1

## SW DIP-4
designator S?
pins: 1 A1, 2 A2, 3 A3, 4 A4, 5 B4, 6 B3, 7 B2, 8 B1

## SW DIP-4_0
designator S?
pins: 1 A1, 2 A2, 3 A3, 4 A4, 5 B4, 6 B3, 7 B2, 8 B1

## SW DIP-4_1
designator S?
pins: 1 A1, 2 A2, 3 A3, 4 A4, 5 B4, 6 B3, 7 B2 (out), 8 B1 (out)

## SW DIP-4_2
designator S?
pins: 1 A1, 2 A2, 3 A3, 4 A4, 5 B4, 6 B3, 7 B2, 8 B1

## SW DIP-4_4
designator S?
pins: 1 A1, 2 A2, 3 A3, 4 A4, 5 B4, 6 B3, 7 B2, 8 B1

## SW DIP-5
designator S?
pins: 1 A1, 2 A2, 3 A3, 4 A4, 5 A5, 6 B5, 7 B4, 8 B3, 9 B2, 10 B1

## SW DIP-5_0
designator S?
pins: 1 A1, 2 A2, 3 A3, 4 A4, 5 A5, 6 B5, 7 B4, 8 B3, 9 B2, 10 B1

## SW DIP-5_1
designator S?
pins: 1 A1 (out), 2 A2 (out), 3 A3 (out), 4 A4 (out), 5 A5 (out), 6 B5, 7 B4, 8 B3, 9 B2, 10 B1

## SW DIP-6
designator S?
pins: 1 A1, 2 A2, 3 A3, 4 A4, 5 A5, 6 A6, 7 B6, 8 B5, 9 B4, 10 B3, 11 B2, 12 B1

## SW DIP-6_1
designator S?
pins: 1 A1, 2 A2, 3 A3, 4 A4, 5 A5, 6 A6, 7 B6, 8 B5, 9 B4, 10 B3, 11 B2, 12 B1

## SW DIP-8
designator S?
pins: 1 A1, 2 A2, 3 A3, 4 A4, 5 A5, 6 A6, 7 A7, 8 A8, 9 B8, 10 B7, 11 B6, 12 B5, 13 B4, 14 B3, 15 B2, 16 B1

## SW DIP-8_0
designator S?
pins: 1 A1, 2 A2, 3 A3, 4 A4, 5 A5, 6 A6, 7 A7, 8 A8, 9 B8, 10 B7, 11 B6, 12 B5, 13 B4, 14 B3, 15 B2, 16 B1

## SW DIP-10
designator SW?
pins: 1 A1, 2 A2, 3 A3, 4 A4, 5 A5, 6 A6, 7 A7, 8 A8, 9 A9, 10 A10, 11 B10, 12 B9, 13 B8, 14 B7, 15 B6, 16 B5, 17 B4, 18 B3, 19 B2, 20 B1

## SW-3PAD2
designator SW3PAD-S?
footprint 3P-1.2mm
pins: 1 ~{}, 2 ~{}, 3 ~{}
1 alternate drawing of the same symbol

## SW-S
designator SW?
pins: 1, 2, 3, 4

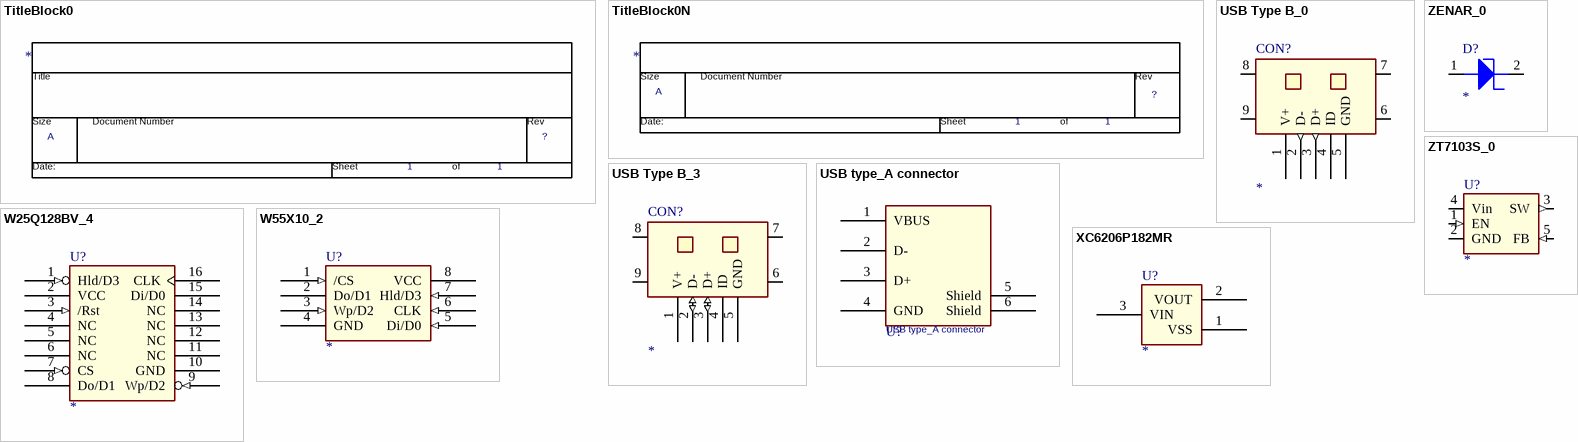
[diagram p4: symbols TitleBlock0 to ZT7103S_0]

## TitleBlock0
designator *  Page Size: A  Page Number: 1  (graphical)
Page Create Date: March  8, 1995; RevCode: ?; Page Count: 1
text: Title; Size; Document Number; Rev; Date:; Sheet; of

## TitleBlock0N
designator *  Page Size: A  Page Number: 1  (graphical)
RevCode: ?; Page Create Date: April 25, 1995; Page Count: 1
text: Size; Document Number; Rev; Date:; Sheet; of

## USB Type B_0
designator CON?
footprint 9
pins: 1 V+ (power), 2 D- (out), 3 D+ (out), 4 ID (oc), 5 GND (power), 6 ~{} (power), 7 ~{} (power), 8 ~{} (power), 9 ~{} (power)

## USB Type B_3
designator CON?
footprint 9
pins: 1 V+ (power), 2 D- (io), 3 D+ (io), 4 ID (oc), 5 GND (power), 6 ~{} (power), 7 ~{} (power), 8 ~{} (power), 9 ~{} (power)

## USB type_A connector
designator U?
pins: 1 VBUS (power), 2 D-, 3 D+, 4 GND (power), 5 Shield, 6 Shield

## W25Q128BV_4
designator U?
pins: 1 Hld/D3 (in), 2 VCC (power), 3 /Rst (in), 4 NC, 5 NC, 6 NC, 7 CS (in), 8 Do/D1, 9 Wp/D2 (in), 10 GND (power), 11 NC, 12 NC, 13 NC, 14 NC, 15 Di/D0, 16 CLK

## W55X10_2
designator U?
footprint 8-pin SOIC 150mil
pins: 1 /CS (in), 2 Do/D1, 3 Wp/D2 (in), 4 GND (power), 5 Di/D0 (in), 6 CLK (in), 7 Hld/D3 (in), 8 VCC (power)

## XC6206P182MR
designator U?
pins: 1 VSS, 2 VOUT, 3 VIN

## ZENAR_0
designator D?
pins: 1, 2

## ZT7103S_0
designator U?
footprint SOT-25
pins: 1 EN (in), 2 GND (power), 3 SW (out), 4 Vin (power), 5 FB (in)